# Altium footprint library MODULE_815.PcbLib: 1 footprints
Each footprint in its own frame and in the unit in brackets; x right, y up, seen from the top. Pads: shape width x height; smd on the part's side, far side on the other; paste and mask are expansions set on the pad; w line width, h text height; cw(c..) or ccw(c..) is an arc to the next point about the centre after c.
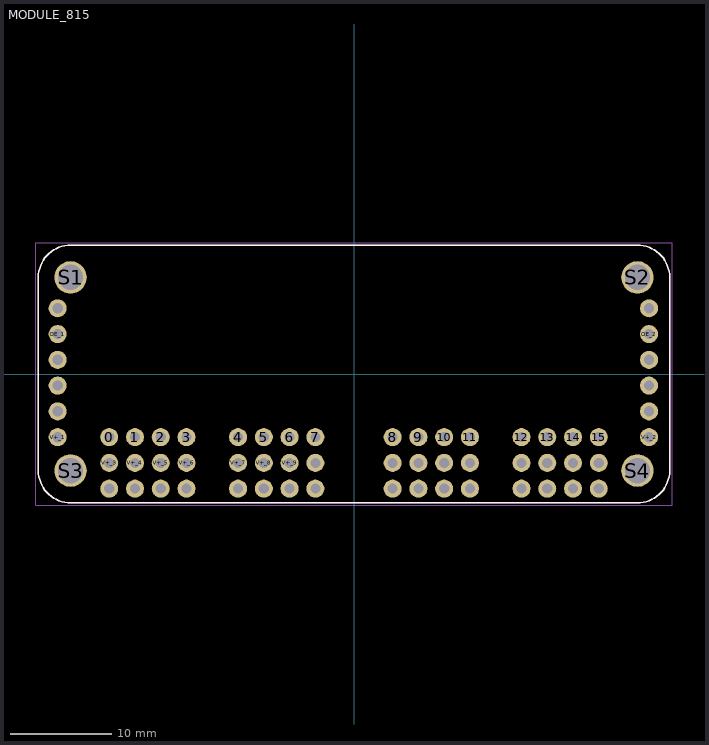
[diagram p0: the footprint, top view; thin cyan lines are the x and y axes]

## MODULE_815 [mil]
pads (64):
  round 70 hole 39.37: 0(-950,-245) 1(-850,-245) 2(-750,-245) 3(-650,-245) 4(-450,-245) 5(-350,-245) 6(-250,-245) 7(-150,-245) 8(150,-245) 9(250,-245) 10(350,-245) 11(450,-245) 12(650,-245) 13(750,-245) 14(850,-245) 15(950,-245) GND_3(-950,-445) GND_4(-850,-445) GND_5(-750,-445) GND_6(-650,-445) GND_7(-450,-445) GND_8(-350,-445) GND_9(-250,-445) GND_10(-150,-445) GND_11(150,-445) GND_12(250,-445) GND_13(350,-445) GND_14(450,-445) GND_15(650,-445) GND_16(750,-445) GND_17(850,-445) GND_18(950,-445) V+_3(-950,-345) V+_4(-850,-345) V+_5(-750,-345) V+_6(-650,-345) V+_7(-450,-345) V+_8(-350,-345) V+_9(-250,-345) V+_10(-150,-345) V+_11(150,-345) V+_12(250,-345) V+_13(350,-345) V+_14(450,-345) V+_15(650,-345) V+_16(750,-345) V+_17(850,-345) V+_18(950,-345)
  round 70 hole 40: GND_1(-1150,255) GND_2(1145,255) OE_1(-1150,155) OE_2(1145,155) SCL_1(-1150,55) SCL_2(1145,55) SDA_1(-1150,-45) SDA_2(1145,-45) V+_1(-1150,-245) V+_2(1145,-245) VCC_1(-1150,-145) VCC_2(1145,-145)
  round 125.98 hole 98.43: S1(-1100,375) S2(1100,375) S3(-1100,-375) S4(1100,-375)
Top Overlay:
  lines w5: -1225,-375 ccw(c-1100,-375) -1100,-500 1100,-500 ccw(c1100,-375) 1225,-375 1225,375 ccw(c1100,375) 1100,500 -1100,500 ccw(c-1100,375) -1225,375 -1225,-375
Mechanical 13:
  lines w5: -1225,-375 ccw(c-1100,-375) -1100,-500 1100,-500 ccw(c1100,-375) 1225,-375 1225,375 ccw(c1100,375) 1100,500 -1100,500 ccw(c-1100,375) -1225,375 -1225,-375
Mechanical 15:
  lines w1.97: -1234.84,-509.84 -1234.84,509.84 1234.84,509.84 1234.84,-509.84 -1234.84,-509.84
3D body "step_temp.STEP": height 334.65, standoff -141.73, extent -1225,-500 1225,500